# Altium footprint library IND_BOURNS_SDR1005.PcbLib: 1 footprints
Each footprint in its own frame and in the unit in brackets; x right, y up, seen from the top. Pads: shape width x height; smd on the part's side, far side on the other; paste and mask are expansions set on the pad; w line width, h text height; cw(c..) or ccw(c..) is an arc to the next point about the centre after c.
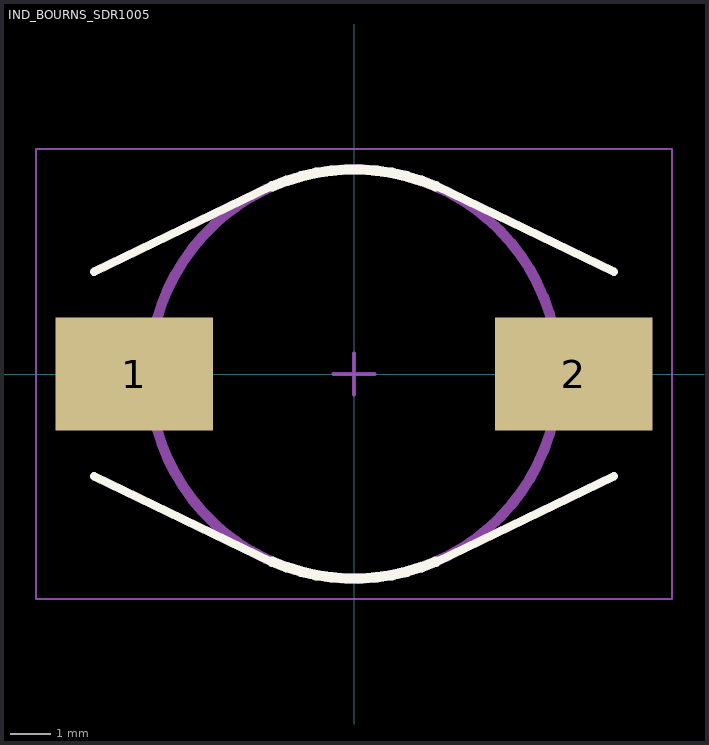
[diagram p0: the footprint, top view; thin cyan lines are the x and y axes]

## IND_BOURNS_SDR1005 [mm] "Inductor, Miscellaneous"
height 5.3
pads (2):
  rect 3.85x2.75 smd: 1(-5.375,0) 2(5.375,0)
Top Overlay:
  lines w0.2: -6.35,-2.5 -2,-4.6 ; -6.35,2.5 -2,4.6 ; 2,-4.6 6.35,-2.5 ; 2,4.6 6.35,2.5
  lines w0.254: -1.994,-4.585 ccw(c0,0) 1.994,-4.585 ; -1.994,4.585 cw(c0,0) 1.994,4.585
TopAssy:
  lines w0.2: -6.35,-2.5 -2,-4.6 ; -6.35,2.5 -2,4.6 ; 2,-4.6 6.35,-2.5 ; 2,4.6 6.35,2.5
  lines w0.254: -1.994,-4.585 ccw(c0,0) 1.994,-4.585 ; -1.994,4.585 cw(c0,0) 1.994,4.585
3D Body:
  circle w0.254: c0,0 r5
Board:
  lines w0.05: -7.775,-5.5 -7.775,5.5 7.775,5.5 7.775,-5.5 -7.775,-5.5
  lines w0.1: -0.5,0 0.5,0 ; 0,-0.5 0,0.5
3D body: height 5, standoff 0, extent -5,0 0,5
3D body: height 1.24, standoff -1.25, extent 0,5 0,5
3D body: height 5, standoff 0, extent -5,-5 0,0
3D body: height 5, standoff 0, extent 0,-5 5,0
3D body: height 5, standoff 0, extent 0,0 5,5
3D body: height 2, standoff 0, extent -6.5,-4.619 -1.913,4.619
3D body: height 2, standoff 0, extent 1.913,-4.619 6.5,4.619